# Altium schematic symbol library machcauH.SCHLIB: 8 symbols
Pins are listed as number, name and electrical type; pins without a type are passive.

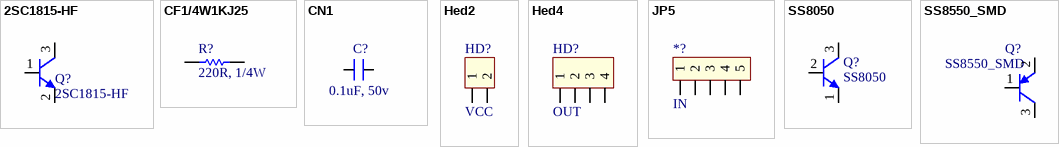
[diagram p0: symbols 2SC1815-HF to SS8550_SMD]

## 2SC1815-HF
designator Q?
Trans NPN 50V 150mA SOT-23; ComponentLink1Description: Datasheet; ComponentLink1URL: D:\Dropbox\Datasheets\Transistors\P Channel Bipolar\2SC1815-HF.pdf; Unit Price: 0.0286
footprint 2SC1815-HF (SOT23-3)
pins: 1 B, 2 E, 3 C

## CF1/4W1KJ25
designator R?  value 220R, 1/4W  (hidden comment: CF1/4W1KJ25)
RES CF AXIAL-0.3 5% 1/4W 1K; Unit Price: 0.001; ComponentLink1Description: Datasheet; ComponentLink1URL: D:\Dropbox\Datasheets\Passive Components\Resistors\Carbon Film Resistor.pdf
footprint Res AXIAL-0.3 (Axial Device, Thru-Hole; 2 Leads; 0.3 in Pin Spacing)
pins: 1, 2

## CN1
designator C?, comment 0.1uF, 50v
Cap np  1pF - 472pF; Value: 100pF
footprint C0_1uF (Tu gom 3.5wf104mabaa 05 x 1.78 x 3.43 mm (WxTxH max); Pin Spacing 2.54 mm (typ))
pins: 1, 2

## Hed2
designator HD?, comment VCC
Header 2 (Green); Value: Header 2
footprint CON2
pins: 1, 2

## Hed4
designator HD?, comment OUT
Header 4 (Green); Value: Header 4
footprint Header_4 (Connector DIP, 4Pin_2.54mm)
pins: 1, 2, 3, 4

## JP5
designator *?, comment IN
footprint Header_5 (Connector DIP, 5Pin_2.54mm)
footprint JP5H
pins: 1, 2, 3, 4, 5

## SS8050
designator Q?
Trans NPN 25V 1.5A TO-92; ComponentLink1Description: Datasheet; ComponentLink1URL: D:\Dropbox\Datasheets\Transistors\P Channel Bipolar\SS8050.pdf; Unit Price: 0.0476
footprint SS8050 (TO-92 Bent Lead, Flat Index; 3 In-Line, Axial Leads; Body Dia. 4.5mm; Leads 0.51 x 0.48 mm (max))
pins: 1 E, 2 B, 3 C

## SS8550_SMD
designator Q?
Trans PNP -25V -1.5A TO-92; ComponentLink1Description: Datasheet; ComponentLink1URL: D:\Dropbox\Datasheets\Transistors\N Channel Bipolar\SS8550.pdf; Unit Price: 0.0476
footprint SS8550 (TO-92 Bent Lead, Flat Index; 3 In-Line, Axial Leads; Body Dia. 4.5mm; Leads 0.51 x 0.48 mm (max))
pins: 1 B, 2 E, 3 C